# EAGLE library part TXU0101DBVR (library TXU0101DBVR)
Translation - Voltage Levels Single channel fixed-direction level shifter Source: Datasheet <https://www.ti.com/lit/ds/symlink/txu0101.pdf?ts=1669130963626&ref_url=https%3A%2F%2Fwww.ti.com%2Fproduct%2FTXU0101>
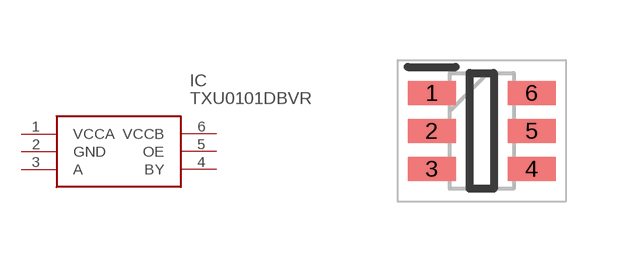
[diagram p0: symbol with the pads of SOT95P280X145-6N; footprint SOT95P280X145-6N]

Designator prefix IC

## TXU0101DBVR (Description: Translation - Voltage Levels Single channel fixed-direction level shifter; Height: 1.45mm; Manufacturer_Name: Texas Instruments; Manufacturer_Part_Number: TXU0101DBVR; Mouser_Part_Number: 595-TXU0101DBVR; Mouser_Price-Stock: https://www.mouser.co.uk/ProductDetail/Texas-Instruments/TXU0101DBVR?qs=IPgv5n7u5QaPPuDmRaldJw%3D%3D)  [SOT95P280X145-6N]
1  VCCA
2  GND
3  A
4  BY
5  OE
6  VCCB

## Footprint SOT95P280X145-6N (pad centres in mm)
DBV (R-PDSO-G6)
smd 1.2 x 0.6: 1 -1.25,0.95; 2 -1.25,0; 3 -1.25,-0.95; 4 1.25,-0.95; 5 1.25,0; 6 1.25,0.95